# Altium schematic symbol library FlybackTransformer.SchLib: 1 symbol
Pins are listed as number, name and electrical type; pins without a type are passive.

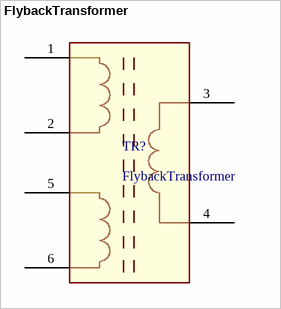
[diagram p0: symbol FlybackTransformer]

## FlybackTransformer
designator TR?
B66317G0160X187 GAPPED N87 CORE; ComponentLink1Description: New link; ComponentLink1URL: *; Manufacturer_Part_Number: B66317G0160X187
footprint FlybackTransformer (B66317G0160X187  Gapped ferrite fore / Coil former  66208B1110T001)
pins: 1, 2, 3, 4, 5, 6